# EAGLE library part FT2232HL (library launchpad)
FT2232HL
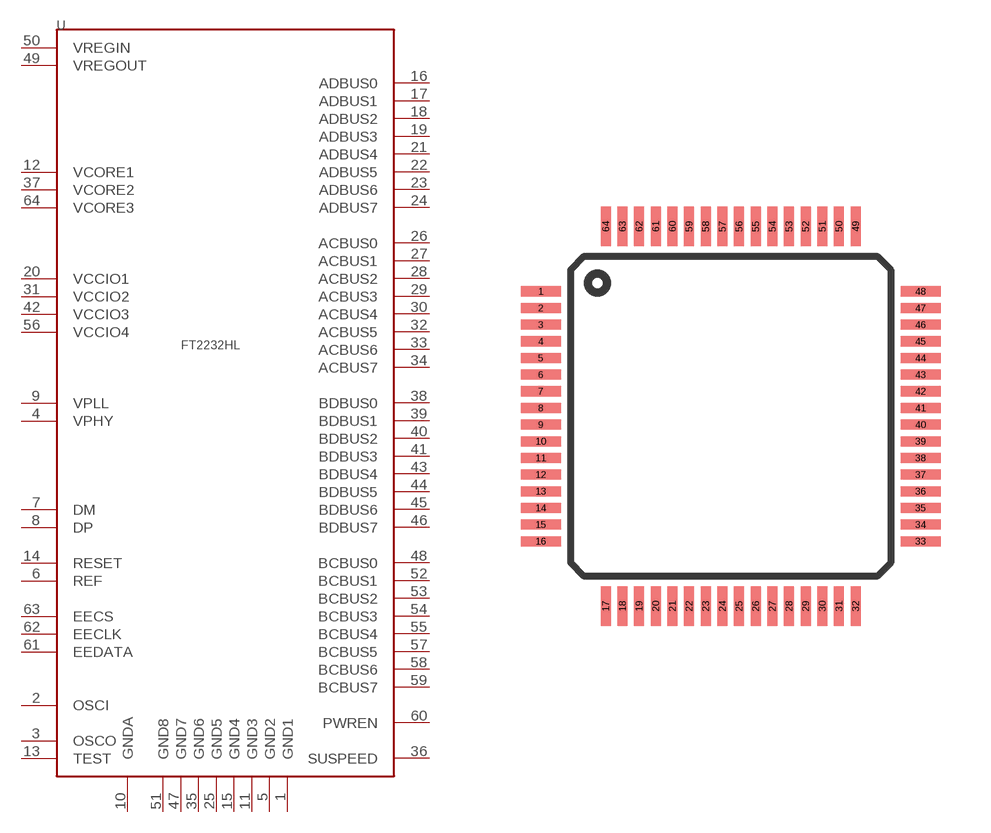
[diagram p1: symbol with the pads of LQFP64; footprint LQFP64]

Designator prefix U

## FT2232HL  [LQFP64]
1  GND1
2  OSCI
3  OSCO
4  VPHY
5  GND2
6  REF
7  DM
8  DP
9  VPLL
10  GNDA
11  GND3
12  VCORE1
13  TEST
14  RESET
15  GND4
16  ADBUS0
17  ADBUS1
18  ADBUS2
19  ADBUS3
20  VCCIO1
21  ADBUS4
22  ADBUS5
23  ADBUS6
24  ADBUS7
25  GND5
26  ACBUS0
27  ACBUS1
28  ACBUS2
29  ACBUS3
30  ACBUS4
31  VCCIO2
32  ACBUS5
33  ACBUS6
34  ACBUS7
35  GND6
36  SUSPEED
37  VCORE2
38  BDBUS0
39  BDBUS1
40  BDBUS2
41  BDBUS3
42  VCCIO3
43  BDBUS4
44  BDBUS5
45  BDBUS6
46  BDBUS7
47  GND7
48  BCBUS0
49  VREGOUT
50  VREGIN
51  GND8
52  BCBUS1
53  BCBUS2
54  BCBUS3
55  BCBUS4
56  VCCIO4
57  BCBUS5
58  BCBUS6
59  BCBUS7
60  PWREN
61  EEDATA
62  EECLK
63  EECS
64  VCORE3

## Footprint LQFP64 (pad centres in mm)
smd 1.2 x 0.3: 1 -1.331,8.449; 2 -1.331,7.949; 3 -1.331,7.449; 4 -1.331,6.949; 5 -1.331,6.449; 6 -1.331,5.949; 7 -1.331,5.449; 8 -1.331,4.949; 9 -1.331,4.449; 10 -1.331,3.949; 11 -1.331,3.449; 12 -1.331,2.949; 13 -1.331,2.449; 14 -1.331,1.949; 15 -1.331,1.449; 16 -1.331,0.949; 33 10.069,0.949; 34 10.069,1.449; 35 10.069,1.949; 36 10.069,2.449; 37 10.069,2.949; 38 10.069,3.449; 39 10.069,3.949; 40 10.069,4.449; 41 10.069,4.949; 42 10.069,5.449; 43 10.069,5.949; 44 10.069,6.449; 45 10.069,6.949; 46 10.069,7.449; 47 10.069,7.949; 48 10.069,8.449
smd 0.3 x 1.2: 17 0.619,-1.001; 18 1.119,-1.001; 19 1.619,-1.001; 20 2.119,-1.001; 21 2.619,-1.001; 22 3.119,-1.001; 23 3.619,-1.001; 24 4.119,-1.001; 25 4.619,-1.001; 26 5.119,-1.001; 27 5.619,-1.001; 28 6.119,-1.001; 29 6.619,-1.001; 30 7.119,-1.001; 31 7.619,-1.001; 32 8.119,-1.001; 49 8.119,10.399; 50 7.619,10.399; 51 7.119,10.399; 52 6.619,10.399; 53 6.119,10.399; 54 5.619,10.399; 55 5.119,10.399; 56 4.619,10.399; 57 4.119,10.399; 58 3.619,10.399; 59 3.119,10.399; 60 2.619,10.399; 61 2.119,10.399; 62 1.619,10.399; 63 1.119,10.399; 64 0.619,10.399